# EAGLE library part DSPIC33FJ128MC802-I_SP (library DSPIC33FJ128MC802-I_SP)
16-Bit Digital Signal Controllers Source: Datasheet <https://www.mouser.in/datasheet/2/268/70291G-254604.pdf>
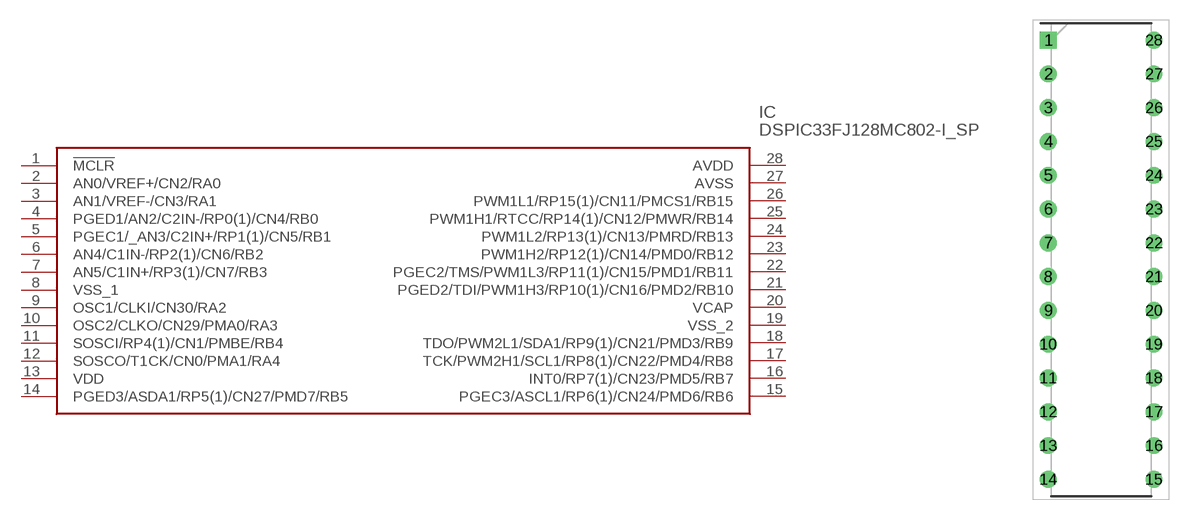
[diagram p0: symbol with the pads of DIP794W56P254L3486H508Q28N; footprint DIP794W56P254L3486H508Q28N]

Designator prefix IC

## DSPIC33FJ128MC802-I_SP (Arrow_Part_Number: DSPIC33FJ128MC802-I/SP; Arrow_Price-Stock: https://www.arrow.com/en/products/dspic33fj128mc802-isp/microchip-technology; Description: 16-Bit Digital Signal Controllers; Height: 5.08mm; Manufacturer_Name: Microchip; Manufacturer_Part_Number: DSPIC33FJ128MC802-I/SP; Mouser_Part_Number: 579-DSPIC128MC802ISP; Mouser_Price-Stock: https://www.mouser.co.uk/ProductDetail/Microchip-Technology/dsPIC33FJ128MC802-I-SP?qs=nMCt4TBfEwoy3BuZFW%2F8pw%3D%3D)  [DIP794W56P254L3486H508Q28N]
1  !MCLR
2  AN0/VREF+/CN2/RA0
3  AN1/VREF-/CN3/RA1
4  PGED1/AN2/C2IN-/RP0(1)/CN4/RB0
5  PGEC1/_AN3/C2IN+/RP1(1)/CN5/RB1
6  AN4/C1IN-/RP2(1)/CN6/RB2
7  AN5/C1IN+/RP3(1)/CN7/RB3
8  VSS_1
9  OSC1/CLKI/CN30/RA2
10  OSC2/CLKO/CN29/PMA0/RA3
11  SOSCI/RP4(1)/CN1/PMBE/RB4
12  SOSCO/T1CK/CN0/PMA1/RA4
13  VDD
14  PGED3/ASDA1/RP5(1)/CN27/PMD7/RB5
15  PGEC3/ASCL1/RP6(1)/CN24/PMD6/RB6
16  INT0/RP7(1)/CN23/PMD5/RB7
17  TCK/PWM2H1/SCL1/RP8(1)/CN22/PMD4/RB8
18  TDO/PWM2L1/SDA1/RP9(1)/CN21/PMD3/RB9
19  VSS_2
20  VCAP
21  PGED2/TDI/PWM1H3/RP10(1)/CN16/PMD2/RB10
22  PGEC2/TMS/PWM1L3/RP11(1)/CN15/PMD1/RB11
23  PWM1H2/RP12(1)/CN14/PMD0/RB12
24  PWM1L2/RP13(1)/CN13/PMRD/RB13
25  PWM1H1/RTCC/RP14(1)/CN12/PMWR/RB14
26  PWM1L1/RP15(1)/CN11/PMCS1/RB15
27  AVSS
28  AVDD

## Footprint DIP794W56P254L3486H508Q28N (pad centres in mm)
28-Lead Skinny Plastic Dual In-Line (SP) - 300mil Body [SPDIP]
drill 0.759 pad 1.159 square: 1 -3.969,16.51
drill 0.759 pad 1.159: 2 -3.969,13.97; 3 -3.969,11.43; 4 -3.969,8.89; 5 -3.969,6.35; 6 -3.969,3.81; 7 -3.969,1.27; 8 -3.969,-1.27; 9 -3.969,-3.81; 10 -3.969,-6.35; 11 -3.969,-8.89; 12 -3.969,-11.43; 13 -3.969,-13.97; 14 -3.969,-16.51; 15 3.969,-16.51; 16 3.969,-13.97; 17 3.969,-11.43; 18 3.969,-8.89; 19 3.969,-6.35; 20 3.969,-3.81; 21 3.969,-1.27; 22 3.969,1.27; 23 3.969,3.81; 24 3.969,6.35; 25 3.969,8.89; 26 3.969,11.43; 27 3.969,13.97; 28 3.969,16.51